# EAGLE library part L6928D (library ST_Microelctronics_By_element14_Batch_1)
STEP DOWN REGULATOR
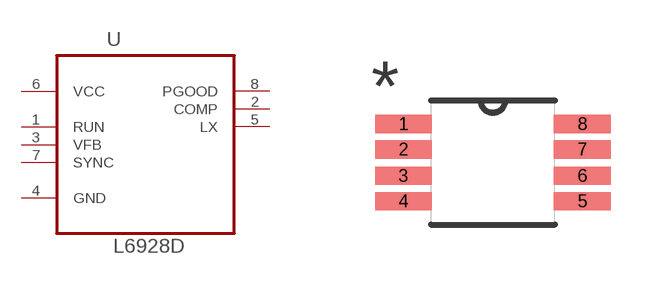
[diagram p52: symbol with the pads of SOP65P490X110-8N; footprint SOP65P490X110-8N]

Designator prefix U

## L6928D (MPN: L6928D; OC_FARNELL: 1270993; OC_NEWARK: 56P8673; PACKAGE: MSOP-8; SUPPLIER: STMICROELECTRONICS)  [SOP65P490X110-8N]
1  RUN  in
2  COMP  out
3  VFB  in
4  GND  pas
5  LX  out
6  VCC  pwr
7  SYNC  in
8  PGOOD  out

## Footprint SOP65P490X110-8N (pad centres in mm)
smd 1.422 x 0.457: 1 -2.235,0.965; 2 -2.235,0.33; 3 -2.235,-0.33; 4 -2.235,-0.965; 5 2.235,-0.965; 6 2.235,-0.33; 7 2.235,0.33; 8 2.235,0.965